# EAGLE library part 555154-1 (library con-amp)
AMP connector
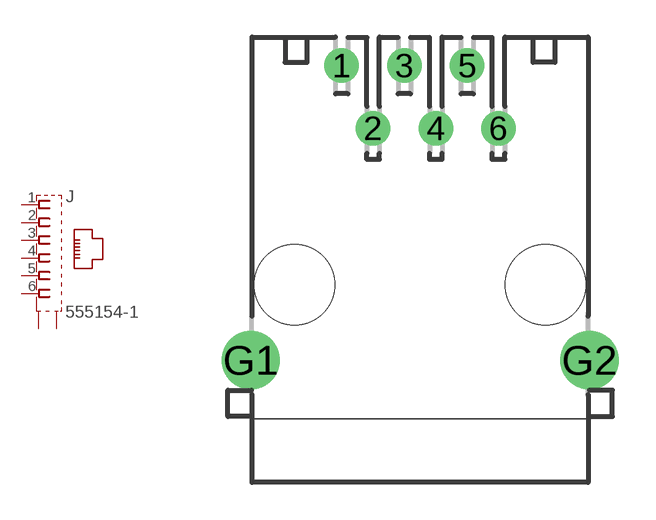
[diagram p72: symbol with the pads of 555154-1; footprint 555154-1]

Designator prefix J

## 555154-1  [555154-1]
1  1  pas
2  2  pas
3  3  pas
4  4  pas
5  5  pas
6  6  pas
G1  S1  pas
G2  S2  pas

## Footprint 555154-1 (pad centres in mm)
Modular Jack PC Board Ground
drill 0.889 round: 1 -3.175,8.89; 2 -1.905,6.35; 3 -0.635,8.89; 4 0.635,6.35; 5 1.905,8.89; 6 3.175,6.35
drill 1.575 pad 2.184 round: G1 -6.858,-3.048; G2 6.858,-3.048
hole 3.251 at -5.08,0
hole 3.251 at 5.08,0